# EAGLE library part ESP8266-01/ESP-01 (library ESP8266-01_ESP-01)
MakerFocus 4pcs ESP8266 ESP-01 Serial Wireless WiFi Transceiver Receiver Module 1MB SPI Flash DC3.0-3.6V Internet of Things WiFi Module Board Compatible with Ar duino Check availability <https://pricing.snapeda.com/parts/ESP8266-01/ESP-01/AI-Thinker/view-part?ref=eda>
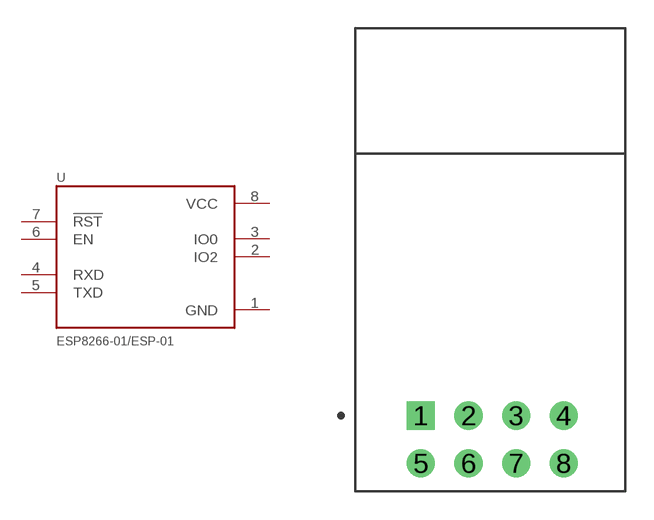
[diagram p0: symbol with the pads of XCVR_ESP8266-01/ESP-01; footprint XCVR_ESP8266-01/ESP-01]

Designator prefix U

## ESP8266-01/ESP-01 (Availability: Not in stock; Description: MakerFocus 4pcs ESP8266 ESP-01 Serial Wireless WiFi Transceiver Receiver Module 1MB SPI Flash DC3.0-3.6V Internet of Things WiFi Module Board Compatible with Ar duino; MF: AI-Thinker; MP: ESP8266-01/ESP-01; Package: Non-Standard AI-Thinker; Price: None)  [XCVR_ESP8266-01/ESP-01]
1  GND  pwr
2  IO2
3  IO0
4  RXD  in
5  TXD  out
6  EN  in
7  !RST  in
8  VCC  pwr

## Footprint XCVR_ESP8266-01/ESP-01 (pad centres in mm)
drill 0.8 pad 1.5 square: 1 -3.81,-8.31
drill 0.8 pad 1.5: 2 -1.27,-8.31; 3 1.27,-8.31; 4 3.81,-8.31; 5 -3.81,-10.85; 6 -1.27,-10.85; 7 1.27,-10.85; 8 3.81,-10.85